# Altium schematic symbol library PS7.SchLib: 1 symbol
Pins are listed as number, name and electrical type; pins without a type are passive.

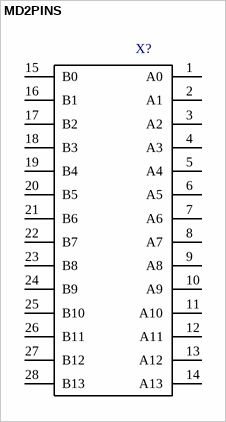
[diagram p0: symbol MD2PINS]

## MD2PINS
designator X?  (value not drawn)
MD2 pins head
pins: 1 A0, 2 A1, 3 A2, 4 A3, 5 A4, 6 A5, 7 A6, 8 A7, 9 A8, 10 A9, 11 A10, 12 A11, 13 A12, 14 A13, 15 B0, 16 B1, 17 B2, 18 B3, 19 B4, 20 B5, 21 B6, 22 B7, 23 B8, 24 B9, 25 B10, 26 B11, 27 B12, 28 B13